# EAGLE library part USB_CONN (library connectors)
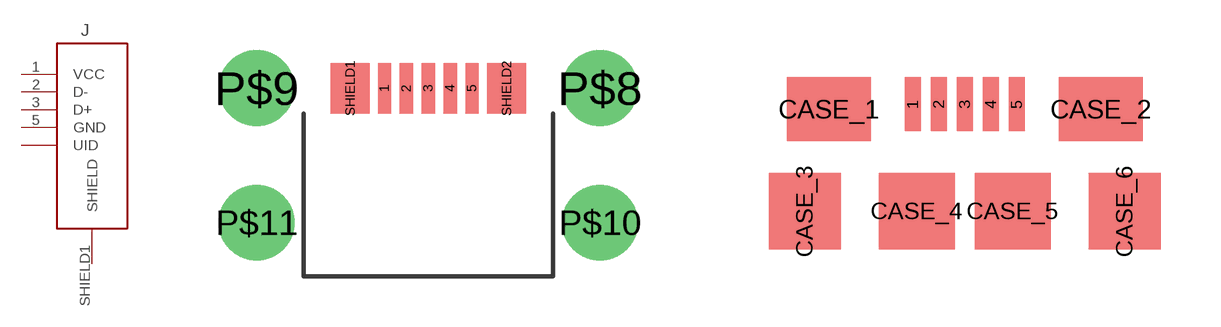
[diagram p3: symbol with the pads of USB_MICRO_B; footprints USB_MICRO_B, USB_MICRO_B_SMT]

Designator prefix J

## USB_CONNMICRO_THT  [USB_MICRO_B]
1  VCC
2  D-
3  D+
5  GND
SHIELD1  SHIELD

## USB_CONNMICRO_SMT  [USB_MICRO_B_SMT]
1  VCC
2  D-
3  D+
4  UID
5  GND
CASE_1  SHIELD
CASE_2  SHIELD
CASE_3  SHIELD
CASE_4  SHIELD
CASE_5  SHIELD
CASE_6  SHIELD

## USB_CONNMINI_THT  [USB_MINI]
1  VCC
2  D-
3  D+
5  GND
SHIELD1  SHIELD
SHIELD2  SHIELD

## Footprint USB_MICRO_B (pad centres in mm)
smd 0.4 x 1.5: 1 -1.3,3.175; 2 -0.65,3.175; 3 0,3.175; 4 0.65,3.175; 5 1.3,3.175
drill 1.5 pad 2.2: P$8 5.1,3.175; P$9 -5.1,3.175; P$10 5.1,-0.825; P$11 -5.1,-0.825
smd 1.15 x 1.5: SHIELD1 -2.325,3.175; SHIELD2 2.325,3.175

## Footprint USB_MICRO_B_SMT (pad centres in mm)
smd 0.4 x 1.35: 1 -1.3,0; 2 -0.65,0; 3 0,0; 4 0.65,0; 5 1.3,0
smd 2.1 x 1.6: CASE_1 -3.4,-0.125; CASE_2 3.4,-0.125
smd 1.8 x 1.9: CASE_3 -4,-2.675; CASE_6 4,-2.675
smd 1.9 x 1.9: CASE_4 -1.2,-2.675; CASE_5 1.2,-2.675

## Footprint USB_MINI (pad centres in mm)
drill 0.5: 1 -1.6,8.65; 2 -0.8,7.45; 3 0,8.65; 4 0.8,7.45; 5 1.6,8.65
drill 1.5: SHIELD1 -3.75,3; SHIELD2 3.75,3